# EAGLE library part 610006243021 (library Wuerth_Elektronik_eiCan_Pin_&_Socked_Headers_v1.3)
WR-PHD 2.54mm SMT Dual Socket Header Bottom Entry, 6 Pins
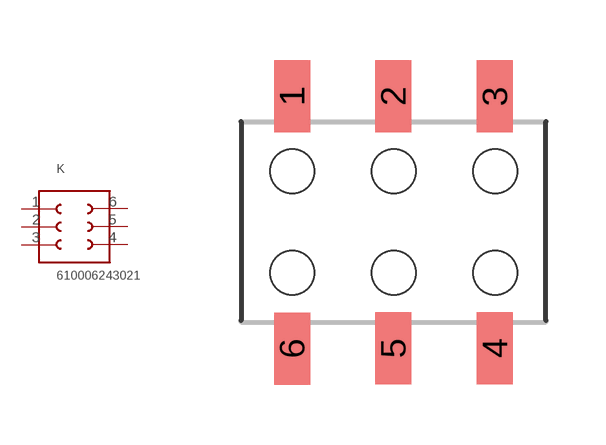
[diagram p218: symbol with the pads of 610006243021; footprint 610006243021]

Designator prefix K

## 610006243021  [610006243021]
1  1  pas
2  2  pas
3  3  pas
4  4  pas
5  5  pas
6  6  pas

## Footprint 610006243021 (pad centres in mm)
WR-PHD 2.54mm SMT Dual Socket Header Bottom Entry, 6 Pins
smd 0.9 x 1.8: 1 -1.27,3.15; 2 1.26,3.14; 3 3.8,3.14; 4 3.8,-3.16; 5 1.26,-3.16; 6 -1.27,-3.17
hole 1.1 at -1.27,1.27
hole 1.1 at 1.27,1.27
hole 1.1 at 1.27,-1.27
hole 1.1 at -1.27,-1.27
hole 1.1 at 3.81,1.27
hole 1.1 at 3.81,-1.27